# Altium footprint library Robsense_lxxu.PcbLib: 67 footprints (part 3 of 5)
Each footprint in its own frame and in the unit in brackets; x right, y up, seen from the top. Pads: shape width x height; smd on the part's side, far side on the other; paste and mask are expansions set on the pad; w line width, h text height; cw(c..) or ccw(c..) is an arc to the next point about the centre after c.
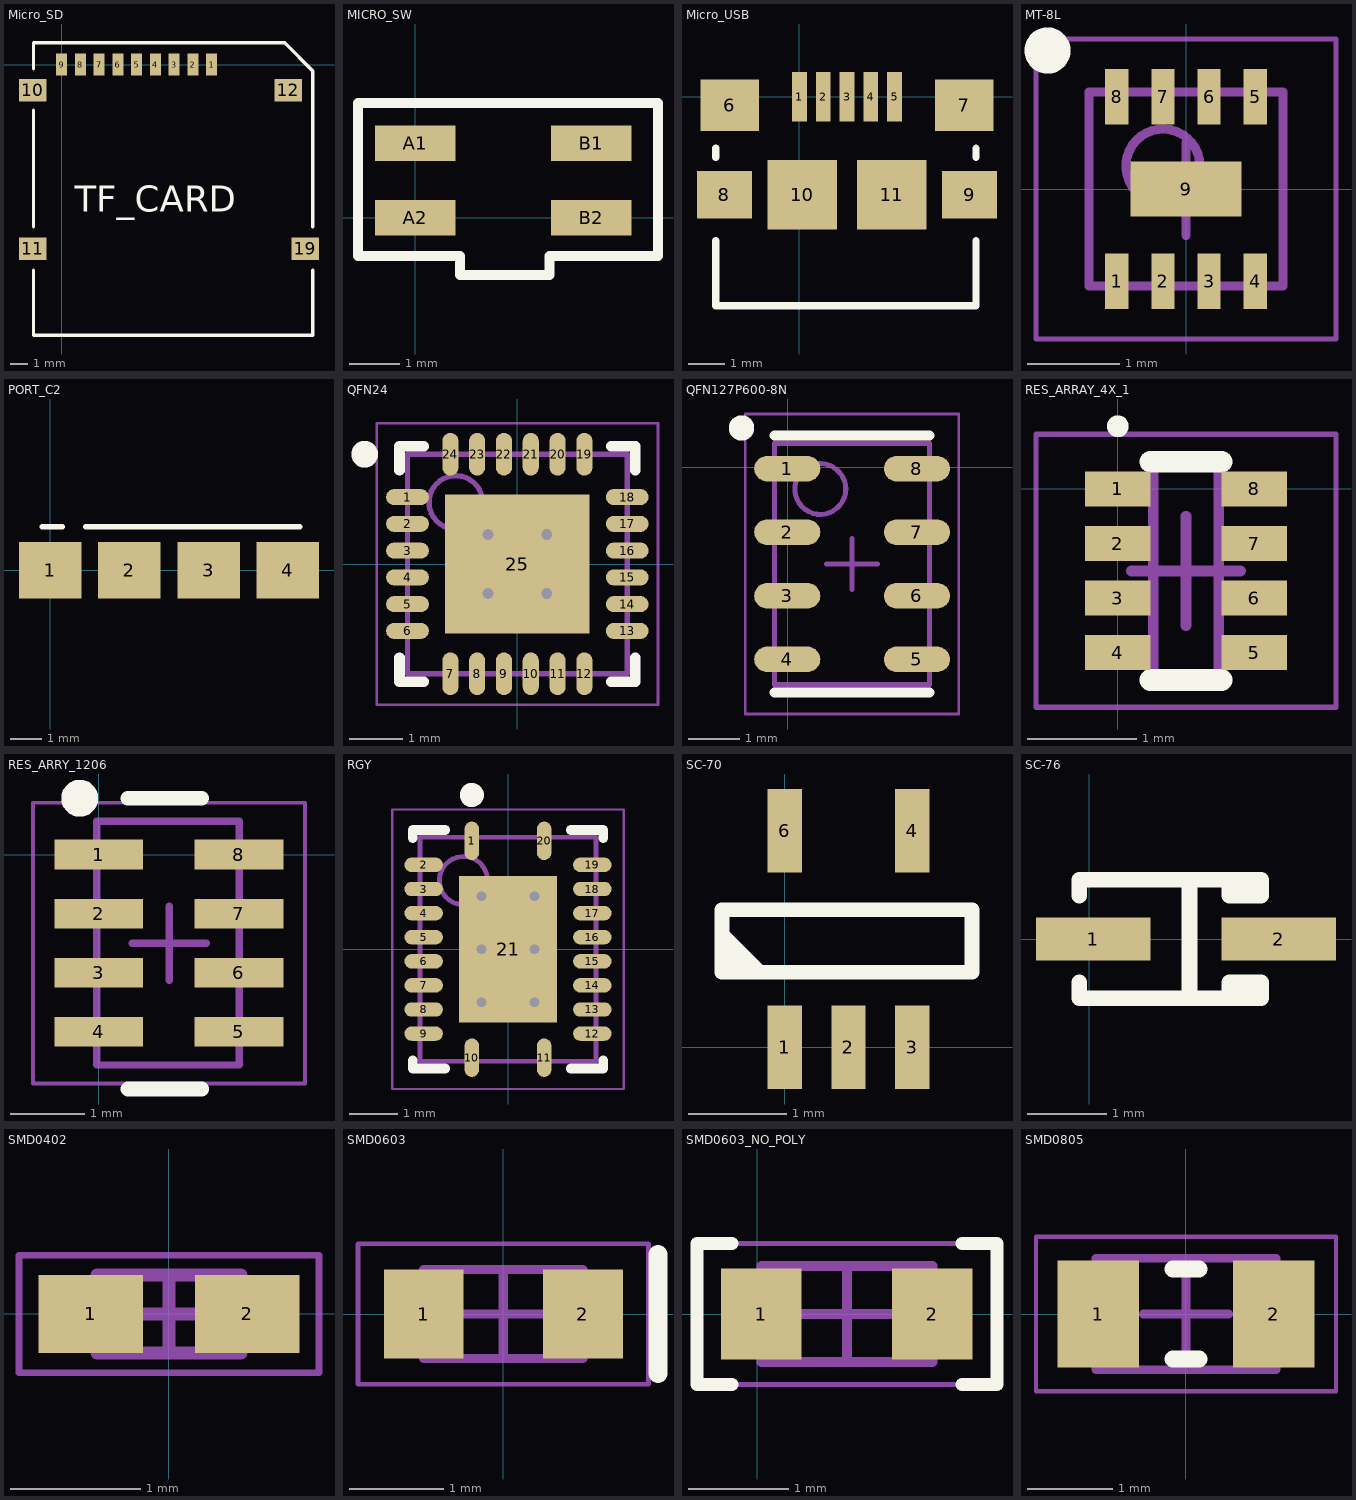
[diagram p2: the footprints below, top view; thin cyan lines are the x and y axes]

## Micro_SD [mm]
pads (13):
  rect 0.64x1.3 smd: 1(8.8,0) 2(7.7,0) 3(6.6,0) 4(5.5,0) 5(4.4,0) 6(3.3,0) 7(2.2,0) 8(1.1,0) 9(0,0)
  rect 1.6x1.32 smd: 10(-1.7,-1.5) 11(-1.7,-10.8) 12(13.3,-1.5) 19(14.3,-10.8)
Top Overlay:
  lines w0.2: -1.651,-12.065 -1.651,-15.875 14.732,-15.875 14.732,-12.065 ; -1.651,-9.525 -1.651,-2.667 ; -1.651,-0.254 -1.651,1.27 13.081,1.27 14.732,-0.381 14.732,-9.525
  text "TF_CARD" at 0.762,-8.636 h1.52

## MICRO_SW [mm]
pads (4):
  rect 1.6x0.7 smd: A1(0,1.48) A2(0,0) B1(3.5,1.48) B2(3.5,0)
Top Overlay:
  lines w0.2: -1.143,-0.762 0.889,-0.762 0.889,-1.143 2.667,-1.143 2.667,-0.762 4.826,-0.762 4.826,2.286 -1.143,2.286 -1.143,-0.762

## Micro_USB [mm]
pads (11):
  rect 0.4x1.35 smd: 1(0,0) 2(0.65,0) 3(1.3,0) 4(1.95,0) 5(2.6,0)
  rect 1.6x1.4 smd: 6(-1.9,-0.23) 7(4.5,-0.23)
  rect 1.5x1.3 smd: 8(-2.05,-2.68) 9(4.65,-2.68)
  rect 1.9x1.9 smd: 10(0.08,-2.68) 11(2.52,-2.68)
Top Overlay:
  lines w0.2: -2.286,-3.937 -2.286,-5.715 4.826,-5.715 4.826,-3.937 ; -2.286,-1.651 -2.286,-1.397 ; 4.826,-1.651 4.826,-1.397

## MT-8L [mm]
height 0.5
pads (9):
  rect 0.25x0.6 smd: 1(-0.75,-1) 2(-0.25,-1) 3(0.25,-1) 4(0.75,-1) 5(0.75,1) 6(0.25,1) 7(-0.25,1) 8(-0.75,1)
  rect 1.2x0.6 smd: 9(0,0)
Top Overlay:
  circle w0.25: c-1.5,1.5 r0.125
Mechanical 13:
  circle w0.1: c-0.25,0.25 r0.4
  lines w0.1: -1.05,-1.05 -1.05,1.05 1.05,1.05 1.05,-1.05 -1.05,-1.05
Mechanical 15:
  lines w0.05: -1.625,-1.625 -1.625,1.625 1.625,1.625 1.625,-1.625 -1.625,-1.625
  lines w0.1: -0.5,0 0.5,0 ; 0,-0.5 0,0.5
3D body: height 0.5, standoff 0.05, extent -1.05,-1.05 1.05,1.05

## PORT_C2 [mm]
pads (4):
  rect 2x1.8 smd: 1(0,0) 2(2.54,0) 3(5.08,0) 4(7.62,0)
Top Overlay:
  lines w0.178: -0.254,1.397 0.381,1.397 ; 1.143,1.397 8.001,1.397

## QFN24 [mm] "QFN, 24-Leads, Body 4.00x4.00mm, Pitch 0.50mm, Thermal Pad 2.60x2.70mm, IPC Medium Density"
height 0.9
pads (25):
  oval 0.8x0.3 smd: 1(-2.05,1.25) 2(-2.05,0.75) 3(-2.05,0.25) 4(-2.05,-0.25) 5(-2.05,-0.75) 6(-2.05,-1.25) 13(2.05,-1.25) 14(2.05,-0.75) 15(2.05,-0.25) 16(2.05,0.25) 17(2.05,0.75) 18(2.05,1.25)
  oval 0.3x0.8 smd: 7(-1.25,-2.05) 8(-0.75,-2.05) 9(-0.25,-2.05) 10(0.25,-2.05) 11(0.75,-2.05) 12(1.25,-2.05) 19(1.25,2.05) 20(0.75,2.05) 21(0.25,2.05) 22(-0.25,2.05) 23(-0.75,2.05) 24(-1.25,2.05)
  rect 2.7x2.6 smd: 25(0,0)
via -0.55,0.55 diameter 0.5 hole 0.2
via 0.55,0.55 diameter 0.5 hole 0.2
via -0.55,-0.55 diameter 0.5 hole 0.2
via 0.55,-0.55 diameter 0.5 hole 0.2
Top Overlay:
  circle w0.25: c-2.85,2.05 r0.125
  lines w0.2: -2.2,-1.75 -2.2,-2.2 -1.75,-2.2 ; -2.2,1.75 -2.2,2.2 -1.75,2.2 ; 1.75,-2.2 2.2,-2.2 2.2,-1.75 ; 1.75,2.2 2.2,2.2 2.2,1.75
Mechanical 13:
  circle w0.1: c-1.15,1.15 r0.5
  lines w0.1: -2.05,-2.05 -2.05,2.05 2.05,2.05 2.05,-2.05 -2.05,-2.05
Mechanical 15:
  lines w0.05: -2.625,-2.625 -2.625,2.625 2.625,2.625 2.625,-2.625 -2.625,-2.625
  lines w0.1: -0.5,0 0.5,0 ; 0,-0.5 0,0.5
3D body: height 0.9, standoff 0.02, extent -2.05,-2.05 2.05,2.05

## QFN127P600-8N [mm]
height 1
pads (8):
  oval 1.3x0.5 smd: 1(-0.005,-0.03) 2(-0.005,-1.28) 3(-0.005,-2.53) 4(-0.005,-3.78) 5(2.545,-3.78) 6(2.545,-2.53) 7(2.545,-1.28) 8(2.545,-0.03)
Top Overlay:
  circle w0.25: c-0.905,0.77 r0.125
  lines w0.2: -0.255,-4.43 1.395,-4.43 ; -0.255,0.62 1.395,0.62 ; 1.145,-4.43 2.795,-4.43 ; 1.145,0.62 2.795,0.62
Mechanical 13:
  circle w0.1: c0.645,-0.43 r0.5
  lines w0.1: -0.255,-4.28 -0.255,0.47 2.795,0.47 2.795,-4.28 -0.255,-4.28
Mechanical 15:
  lines w0.05: -0.83,-4.855 -0.83,1.045 3.37,1.045 3.37,-4.855 -0.83,-4.855
  lines w0.1: 0.77,-1.905 1.77,-1.905 ; 1.27,-2.405 1.27,-1.405
3D body: height 1, standoff 0.05, extent -0.255,-4.28 2.795,0.47

## RES_ARRAY_4X_1 [mm] "SOJ, 8-Leads, Body 2.00x1.00mm, Pitch 0.50mm, IPC Low Density"
height 0.45
pads (8):
  rect 0.6x0.32 smd: 1(0,0) 2(0,-0.5) 3(0,-1) 4(0,-1.5) 5(1.25,-1.5) 6(1.25,-1) 7(1.25,-0.5) 8(1.25,0)
Top Overlay:
  circle w0.1: c0,0.575 r0.05
  lines w0.2: 0.3,-1.75 0.95,-1.75 ; 0.3,0.25 0.95,0.25
Mechanical 13:
  lines w0.1: 0.325,-1.75 0.925,-1.75 0.925,0.25 0.325,0.25 0.325,-1.75
Mechanical 15:
  lines w0.05: -0.75,-2 2,-2 2,0.5 -0.75,0.5 -0.75,-2
  lines w0.1: 0.125,-0.75 1.125,-0.75 ; 0.625,-1.25 0.625,-0.25
3D body: height 0.45, standoff 0.05, extent 0.325,-1.75 0.925,0.25

## RES_ARRY_1206 [mm] "TSOP, 8-Leads, Body 3.20x1.10mm, Pitch 0.80mm, IPC Medium Density"
height 0.6
pads (8):
  rect 1.2x0.4 smd: 1(0,0) 2(0,-0.8) 3(0,-1.6) 4(0,-2.4) 5(1.9,-2.4) 6(1.9,-1.6) 7(1.9,-0.8) 8(1.9,0)
Top Overlay:
  circle w0.25: c-0.256,0.762 r0.125
  lines w0.2: 0.397,-3.175 1.397,-3.175 ; 0.397,0.762 1.397,0.762
Mechanical 13:
  lines w0.1: -0.025,-2.85 1.905,-2.85 1.905,0.45 -0.025,0.45 -0.025,-2.85
Mechanical 15:
  lines w0.05: -0.889,-3.1 2.794,-3.1 2.794,0.7 -0.889,0.7 -0.889,-3.1
  lines w0.1: 0.456,-1.2 1.456,-1.2 ; 0.956,-1.7 0.956,-0.7

## RGY [mm] "QFN, 20-Leads, Body 4.50x3.50mm, Pitch 0.50mm/1.50mm, Thermal Pad 3.03x2.03mm, IPC Medium Density"
height 1
pads (21):
  oval 0.3x0.8 smd: 1(-0.75,2.25) 10(-0.75,-2.25) 11(0.75,-2.25) 20(0.75,2.25)
  oval 0.8x0.3 smd: 2(-1.75,1.75) 3(-1.75,1.25) 4(-1.75,0.75) 5(-1.75,0.25) 6(-1.75,-0.25) 7(-1.75,-0.75) 8(-1.75,-1.25) 9(-1.75,-1.75) 12(1.75,-1.75) 13(1.75,-1.25) 14(1.75,-0.75) 15(1.75,-0.25) 16(1.75,0.25) 17(1.75,0.75) 18(1.75,1.25) 19(1.75,1.75)
  rect 2.03x3.03 smd: 21(0,0)
via -0.55,1.1 diameter 0.5 hole 0.2
via 0.55,1.1 diameter 0.5 hole 0.2
via -0.55,0 diameter 0.5 hole 0.2
via 0.55,0 diameter 0.5 hole 0.2
via -0.55,-1.1 diameter 0.5 hole 0.2
via 0.55,-1.1 diameter 0.5 hole 0.2
Top Overlay:
  circle w0.25: c-0.75,3.2 r0.125
  lines w0.2: -1.975,-2.3 -1.975,-2.475 -1.3,-2.475 ; -1.975,2.3 -1.975,2.475 -1.3,2.475 ; 1.3,-2.475 1.975,-2.475 1.975,-2.3 ; 1.3,2.475 1.975,2.475 1.975,2.3
Mechanical 13:
  circle w0.1: c-0.925,1.425 r0.5
  lines w0.1: -1.825,-2.325 -1.825,2.325 1.825,2.325 1.825,-2.325 -1.825,-2.325
Mechanical 15:
  lines w0.05: -2.4,-2.9 -2.4,2.9 2.4,2.9 2.4,-2.9 -2.4,-2.9
  lines w0.1: -0.5,0 0.5,0 ; 0,-0.5 0,0.5
3D body: height 1, standoff 0.1, extent -1.825,-2.325 1.825,2.325

## SC-70 [mm]
pads (5):
  rect 0.35x0.85 smd: 1(0,0) 2(0.65,0) 3(1.3,0) 4(1.3,2.2) 6(0,2.2)
Top Overlay:
  lines w0.15: -0.635,1.016 -0.381,0.762 ; -0.635,1.143 -0.254,0.762 ; -0.635,0.762 -0.635,1.397 1.905,1.397 1.905,0.762 -0.635,0.762
3D body: height 1, standoff 0.05, extent -0.635,0.127 1.905,2.032

## SC-76 [mm]
pads (2):
  rect 1.45x0.55 smd: 1(0.049,0) 2(2.399,0)
Top Overlay:
  lines w0.2: -0.127,-0.55 -0.127,-0.75 2.174,-0.75 2.174,-0.55 1.774,-0.55 1.774,-0.75 ; -0.127,0.55 -0.127,0.75 2.174,0.75 2.174,0.55 1.774,0.55 1.774,0.75 ; 1.27,-0.75 1.27,0.75

## SMD0402 [mm] "Chip Capacitor, 2-Leads, Body 1.00x0.50mm, IPC Medium Density"
height 0.33
pads (2):
  rect 0.8x0.6 smd: 1(-0.6,0) 2(0.6,0)
Mechanical 13:
  lines w0.1: -0.55,-0.3 -0.55,0.3 0.55,0.3 0.55,-0.3 -0.55,-0.3
Mechanical 15:
  lines w0.05: -1.15,-0.45 -1.15,0.45 1.15,0.45 1.15,-0.45 -1.15,-0.45
  lines w0.1: -0.3,0 0.3,0 ; 0,-0.3 0,0.3
3D body: height 0.33, standoff 0, extent -0.35,-0.3 0.35,0.3
3D body: height 0.33, standoff 0, extent -0.55,-0.3 -0.35,0.3
3D body: height 0.33, standoff 0, extent 0.35,-0.3 0.55,0.3

## SMD0603 [mm] "Chip Capacitor, 2-Leads, Body 1.60x0.80mm, IPC Medium Density"
height 0.5
pads (2):
  rect 0.85x0.95 smd: 1(-0.85,0) 2(0.85,0)
Top Overlay:
  lines w0.2: 1.651,-0.635 1.651,0.635
Mechanical 13:
  lines w0.1: -0.85,-0.475 -0.85,0.475 0.85,0.475 0.85,-0.475 -0.85,-0.475
Mechanical 15:
  lines w0.05: -1.55,-0.75 -1.55,0.75 1.55,0.75 1.55,-0.75 -1.55,-0.75
  lines w0.1: -0.475,0 0.475,0 ; 0,-0.475 0,0.475
3D body: height 0.5, standoff 0, extent -0.55,-0.475 0.55,0.475
3D body: height 0.5, standoff 0, extent -0.85,-0.475 -0.55,0.475
3D body: height 0.5, standoff 0, extent 0.55,-0.475 0.85,0.475

## SMD0603_NO_POLY [mm]
pads (2):
  rect 0.8x0.9 smd: 1(0.039,0) 2(1.739,0)
Top Overlay:
  lines w0.13: -0.254,-0.7 -0.6,-0.7 -0.6,0.7 -0.254,0.7 ; 2.032,-0.7 2.38,-0.7 2.38,0.7 2.032,0.7
Mechanical 13:
  lines w0.1: 0.039,-0.475 1.739,-0.475 1.739,0.475 0.039,0.475 0.039,-0.475
Mechanical 15:
  lines w0.05: -0.6,-0.7 2.38,-0.7 2.38,0.7 -0.6,0.7 -0.6,-0.7
  lines w0.1: 0.414,0 1.364,0 ; 0.889,-0.475 0.889,0.475
3D body: height 0.5, standoff 0, extent 1.439,-0.475 1.739,0.475
3D body: height 0.5, standoff 0, extent 0.039,-0.475 0.339,0.475
3D body: height 0.5, standoff 0, extent 0.339,-0.475 1.439,0.475

## SMD0805 [mm] "Chip Resistor, 2-Leads, Body 2.00x1.20mm, IPC Medium Density"
height 0.5
pads (2):
  rect 0.95x1.25 smd: 1(-1.025,0) 2(1.025,0)
Top Overlay:
  lines w0.2: -0.15,-0.525 0.15,-0.525 ; -0.15,0.525 0.15,0.525
Mechanical 13:
  lines w0.1: -1.05,-0.65 1.05,-0.65 1.05,0.65 -1.05,0.65 -1.05,-0.65
Mechanical 15:
  lines w0.05: -1.75,-0.9 1.75,-0.9 1.75,0.9 -1.75,0.9 -1.75,-0.9
  lines w0.1: -0.5,0 0.5,0 ; 0,-0.5 0,0.5
3D body: height 0.5, standoff 0, extent 0.65,-0.65 1.05,0.65
3D body: height 0.5, standoff 0, extent -1.05,-0.65 -0.65,0.65
3D body: height 0.5, standoff 0, extent -0.65,-0.65 0.65,0.65